# EAGLE library part 8PIN_GROUP (library edebill)
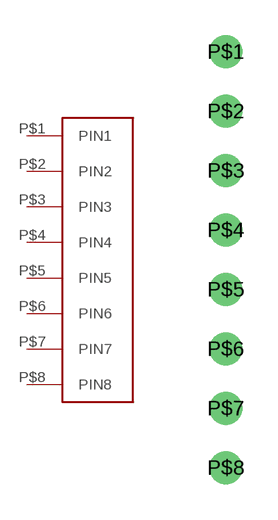
[diagram p2: symbol with the pads of 8PIN_GROUP; footprint 8PIN_GROUP]

Designator prefix -

## 8PIN_GROUP  [8PIN_GROUP]
P$1  PIN1
P$2  PIN2
P$3  PIN3
P$4  PIN4
P$5  PIN5
P$6  PIN6
P$7  PIN7
P$8  PIN8

## Footprint 8PIN_GROUP (pad centres in mm)
drill 0.8 pad 1.422 round: P$1 0,8.89; P$2 0,6.35; P$3 0,3.81; P$4 0,1.27; P$5 0,-1.27; P$6 0,-3.81; P$7 0,-6.35; P$8 0,-8.89